# Altium footprint library sensors.PcbLib: 6 footprints
Each footprint in its own frame and in the unit in brackets; x right, y up, seen from the top. Pads: shape width x height; smd on the part's side, far side on the other; paste and mask are expansions set on the pad; w line width, h text height; cw(c..) or ccw(c..) is an arc to the next point about the centre after c.
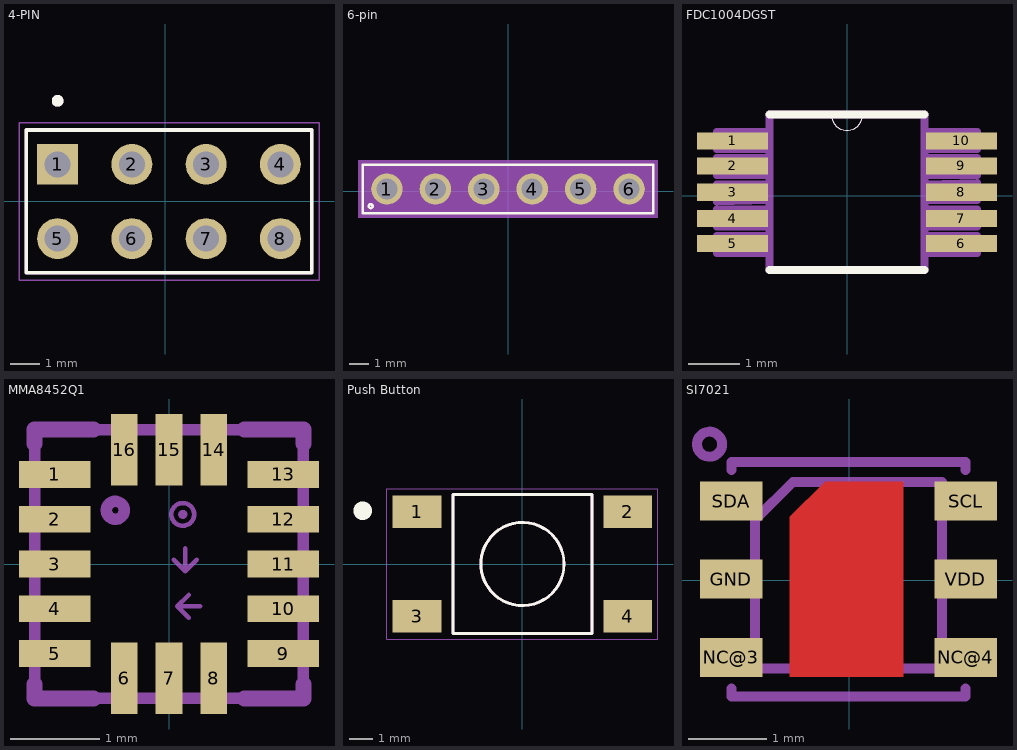
[diagram p0: the footprints below, top view; thin cyan lines are the x and y axes]

## 4-PIN [mm]
pads (8):
  rect 1.398x1.398 hole 0.89: 1(-3.683,1.27)
  round 1.398 hole 0.89: 2(-1.143,1.27) 3(1.397,1.27) 4(3.937,1.27) 5(-3.683,-1.27) 6(-1.143,-1.27) 7(1.397,-1.27) 8(3.937,-1.27)
Top Overlay:
  circle w0.2: c-3.683,3.44 r0.1
  lines w0.127: -4.753,-2.44 -4.753,2.44 5.007,2.44 5.007,-2.44 -4.753,-2.44
Mechanical 4:
  circle w0.2: c-3.683,3.44 r0.1
  circle w0.2: c-3.683,3.44 r0.1
  lines w0.127: -4.753,-2.44 -4.753,2.44 ; -4.753,-2.44 5.007,-2.44 ; -4.753,-2.44 -4.753,2.44 ; -4.753,-2.44 5.007,-2.44 ; -4.753,2.44 5.007,2.44 ; -4.753,2.44 5.007,2.44 ; 5.007,-2.44 5.007,2.44 ; 5.007,-2.44 5.007,2.44
Mechanical 16:
  lines w0.05: -5.003,-2.69 -5.003,2.69 5.257,2.69 5.257,-2.69 -5.003,-2.69

## 6-pin [mm]
pads (6):
  round 1.65 hole 1.1: 1(-6.35,0.127) 2(-3.81,0.127) 3(-1.27,0.127) 4(1.27,0.127) 5(3.81,0.127) 6(6.35,0.127)
Top Overlay:
  circle w0.127: c-7.2,-0.773 r0.1
  lines w0.127: -7.62,-1.143 7.62,-1.143 7.62,1.397 -7.62,1.397 -7.62,-1.143
Mechanical 16:
  region: -7.87,1.647 7.87,1.647 7.87,-1.393 -7.87,-1.393

## FDC1004DGST [mil]
pads (10):
  rect 54x13 smd: 1(-87.08,41.6) 2(-87.08,22.6) 3(-87.08,2.6) 4(-87.08,-17.4) 5(-87.08,-36.4) 6(86.92,-36.4) 7(86.92,-17.4) 8(86.92,2.6) 9(86.92,22.6) 10(86.92,41.6)
Top Overlay:
  lines w0: -12.08,61.6 ccw(c-0.08,61.6) 11.92,61.6
  lines w6: -59.08,-56.4 58.92,-56.4 ; -59.08,61.6 -12.08,61.6 11.92,61.6 58.92,61.6
Mechanical 4:
  lines w0: -12.08,61.6 ccw(c-0.08,61.6) 11.92,61.6 cw(c-0.08,61.6) -12.08,61.6
  lines w6: -99.08,-43.4 -59.08,-43.4 ; -99.08,-43.4 -99.08,-30.4 ; -99.08,-43.4 -59.08,-43.4 ; -99.08,-43.4 -99.08,-30.4 ; -99.08,-30.4 -59.08,-30.4 ; -99.08,-30.4 -59.08,-30.4 ; -99.08,-23.4 -59.08,-23.4 ; -99.08,-23.4 -99.08,-10.4 ; -99.08,-23.4 -59.08,-23.4 ; -99.08,-23.4 -99.08,-10.4 ; -99.08,-10.4 -59.08,-10.4 ; -99.08,-10.4 -59.08,-10.4 ; -99.08,-4.4 -59.08,-3.4 ; -99.08,-4.4 -99.08,8.6 ; -99.08,-4.4 -59.08,-3.4 ; -99.08,-4.4 -99.08,8.6 ; -99.08,8.6 -59.08,8.6 ; -99.08,8.6 -59.08,8.6 ; -99.08,15.6 -59.08,15.6 ; -99.08,15.6 -99.08,28.6 ; -99.08,15.6 -59.08,15.6 ; -99.08,15.6 -99.08,28.6 ; -99.08,28.6 -59.08,28.6 ; -99.08,28.6 -59.08,28.6 ; -99.08,35.6 -59.08,35.6 ; -99.08,35.6 -99.08,48.6 ; -99.08,35.6 -59.08,35.6 ; -99.08,35.6 -99.08,48.6 ; -99.08,48.6 -59.08,48.6 ; -99.08,48.6 -59.08,48.6 ; -59.08,-56.4 -59.08,61.6 ; -59.08,-56.4 58.92,-56.4 ; -59.08,-56.4 -59.08,61.6 ; -59.08,-56.4 58.92,-56.4 ; -59.08,-43.4 -59.08,-30.4 ; -59.08,-43.4 -59.08,-30.4 ; -59.08,-23.4 -59.08,-10.4 ; -59.08,-23.4 -59.08,-10.4 ; -59.08,-3.4 -59.08,8.6 ; -59.08,-3.4 -59.08,8.6 ; -59.08,15.6 -59.08,28.6 ; -59.08,15.6 -59.08,28.6 ; -59.08,35.6 -59.08,48.6 ; -59.08,35.6 -59.08,48.6 ; -59.08,61.6 -12.08,61.6 ; -59.08,61.6 -12.08,61.6 ; -12.08,61.6 11.92,61.6 ; -12.08,61.6 11.92,61.6 ; 11.92,61.6 58.92,61.6 ; 11.92,61.6 58.92,61.6 ; 58.92,-56.4 58.92,61.6 ; 58.92,-56.4 58.92,61.6 ; 58.92,-43.4 98.92,-43.4 ; 58.92,-43.4 58.92,-30.4 ; 58.92,-43.4 98.92,-43.4 ; 58.92,-43.4 58.92,-30.4 ; 58.92,-30.4 98.92,-30.4 ; 58.92,-30.4 98.92,-30.4 ; 58.92,-23.4 98.92,-23.4 ; 58.92,-23.4 58.92,-10.4 ; 58.92,-23.4 98.92,-23.4 ; 58.92,-23.4 58.92,-10.4 ; 58.92,-10.4 98.92,-10.4 ; 58.92,-10.4 98.92,-10.4 ; 58.92,-3.4 98.92,-3.4 ; 58.92,-3.4 58.92,8.6 ; 58.92,-3.4 98.92,-3.4 ; 58.92,-3.4 58.92,8.6 ; 58.92,8.6 98.92,9.6 ; 58.92,8.6 98.92,9.6 ; 58.92,15.6 98.92,15.6 ; 58.92,15.6 58.92,28.6 ; 58.92,15.6 98.92,15.6 ; 58.92,15.6 58.92,28.6 ; 58.92,28.6 98.92,28.6 ; 58.92,28.6 98.92,28.6 ; 58.92,35.6 98.92,35.6 ; 58.92,35.6 58.92,48.6 ; 58.92,35.6 98.92,35.6 ; 58.92,35.6 58.92,48.6 ; 58.92,48.6 98.92,48.6 ; 58.92,48.6 98.92,48.6 ; 98.92,-43.4 98.92,-30.4 ; 98.92,-43.4 98.92,-30.4 ; 98.92,-23.4 98.92,-10.4 ; 98.92,-23.4 98.92,-10.4 ; 98.92,-3.4 98.92,9.6 ; 98.92,-3.4 98.92,9.6 ; 98.92,15.6 98.92,28.6 ; 98.92,15.6 98.92,28.6 ; 98.92,35.6 98.92,48.6 ; 98.92,35.6 98.92,48.6

## MMA8452Q1 [mil] "QFN-16_0.5MM"
pads (16):
  rect 31.5x11.81 smd: 1(-50.2,39.37) 2(-50.2,19.69) 3(-50.2,0) 4(-50.2,-19.69) 5(-50.2,-39.37) 9(50.2,-39.37) 10(50.2,-19.69) 11(50.2,0) 12(50.2,19.69) 13(50.2,39.37)
  rect 11.81x31.5 smd: 6(-19.69,-50.2) 7(0,-50.2) 8(19.69,-50.2) 14(19.69,50.2) 15(0,50.2) 16(-19.69,50.2)
Mechanical 2:
  circle w5: c-23.62,23.62 r3.94
  lines w7: -59.06,-52.88 -59.06,-59.06 -33.2,-59.06 ; -59.06,52.88 -59.06,59.06 -33.2,59.06 ; 33.2,-59.06 59.06,-59.06 59.06,-52.88 ; 33.2,59.06 59.06,59.06 59.06,52.88
Mechanical 8:
  circle w2: c6.06,21.81 r1
  circle w2: c6.06,21.81 r5
  region: 55.12,-34.45 55.12,-44.29 36.73,-44.29 36.73,-34.45
  region: 55.12,-14.76 55.12,-24.61 36.73,-24.61 36.73,-14.76
  region: 55.12,44.29 55.12,34.45 36.73,34.45 36.73,44.29
  region: 55.12,24.61 55.12,14.76 36.73,14.76 36.73,24.61
  region: 55.12,4.92 55.12,-4.92 36.73,-4.92 36.73,4.92
  region: -55.12,-44.29 -55.12,-34.45 -36.73,-34.45 -36.73,-44.29
  region: -55.12,-24.61 -55.12,-14.76 -36.73,-14.76 -36.73,-24.61
  region: -55.12,34.45 -55.12,44.29 -36.73,44.29 -36.73,34.45
  region: -55.12,14.76 -55.12,24.61 -36.73,24.61 -36.73,14.76
  region: -55.12,-4.92 -55.12,4.92 -36.73,4.92 -36.73,-4.92
  region: -14.76,55.12 -14.76,36.73 -24.61,36.73 -24.61,55.12
  region: 24.61,55.12 24.61,36.73 14.76,36.73 14.76,55.12
  region: 4.92,55.12 4.92,36.73 -4.92,36.73 -4.92,55.12
  region: -24.61,-55.12 -24.61,-36.73 -14.76,-36.73 -14.76,-55.12
  region: 14.76,-55.12 14.76,-36.73 24.61,-36.73 24.61,-55.12
  region: -4.92,-55.12 -4.92,-36.73 4.92,-36.73 4.92,-55.12
  lines w2: 2.13,1.81 7.13,-3.19 ; 7.13,6.81 7.13,-3.19 ; 8.62,-23.62 3.62,-18.62 ; 8.62,-13.62 3.62,-18.62 ; 12.13,1.81 7.13,-3.19 ; 13.62,-18.62 3.62,-18.62
  lines w5: -59.06,-59.06 59.06,-59.06 59.06,59.06 -59.06,59.06 -59.06,-59.06
  text "Z" at -2.38,27.65 h18.6
  text "Y" at -0.92,7.96 h18.6
  text "X" at -0.91,-11.72 h18.6

## Push Button [mm]
pads (4):
  rect 2.1x1.4 smd: 1(-4.55,2.25) 2(4.55,2.25) 3(-4.55,-2.25) 4(4.55,-2.25)
Top Overlay:
  circle w0.4: c-6.9,2.3 r0.2
  circle w0.127: c0,0 r1.796
  lines w0.127: -3,-3 3,-3 3,3 -3,3 -3,-3
Mechanical 4:
  circle w0.127: c0,0 r1.796
  circle w0.127: c0,0 r1.796
  lines w0.127: -3,-3 3,-3 ; -3,-3 -3,3 ; -3,-3 3,-3 ; -3,-3 -3,3 ; -3,3 3,3 ; -3,3 3,3 ; 3,-3 3,3 ; 3,-3 3,3
Mechanical 16:
  lines w0.05: -5.85,-3.25 -5.85,3.25 5.85,3.25 5.85,-3.25 -5.85,-3.25

## SI7021 [mil]
pads (6):
  rect 31.5x19.69 smd: GND(-59.49,0.47) NC@3(-59.49,-38.9) NC@4(58.63,-38.9) SCL(58.63,39.84) SDA(-59.49,39.84) VDD(58.63,0.47)
Top Layer:
  region: 27.13,-48.74 -29.96,-48.74 -29.96,31.97 -12.24,49.68 27.13,49.68
Top Paste:
  region: 21.22,-40.87 -22.08,-40.87 -22.08,26.06 -4.37,43.78 21.22,43.78
Top Solder:
  region: 32.87,53.87 32.87,-53.13 -35.13,-53.13 -35.13,53.87
Mechanical 2:
  circle w5: c-70.43,68.47 r6.32
  lines w5: -59.43,-54.53 -59.43,-58.53 58.57,-58.53 58.57,-54.53 ; -59.43,55.47 -59.43,59.47 58.57,59.47 58.57,55.47
Mechanical 8:
  circle w5: c-0.43,0.47 r13.04
  lines w5: 46.57,48.47 46.57,-44.53 -47.43,-44.53 -47.43,30.47 -28.43,49.47 46.57,49.47